# Altium footprint library extension.PcbLib: 33 footprints (part 1 of 3)
Each footprint in its own frame and in the unit in brackets; x right, y up, seen from the top. Pads: shape width x height; smd on the part's side, far side on the other; paste and mask are expansions set on the pad; w line width, h text height; cw(c..) or ccw(c..) is an arc to the next point about the centre after c.
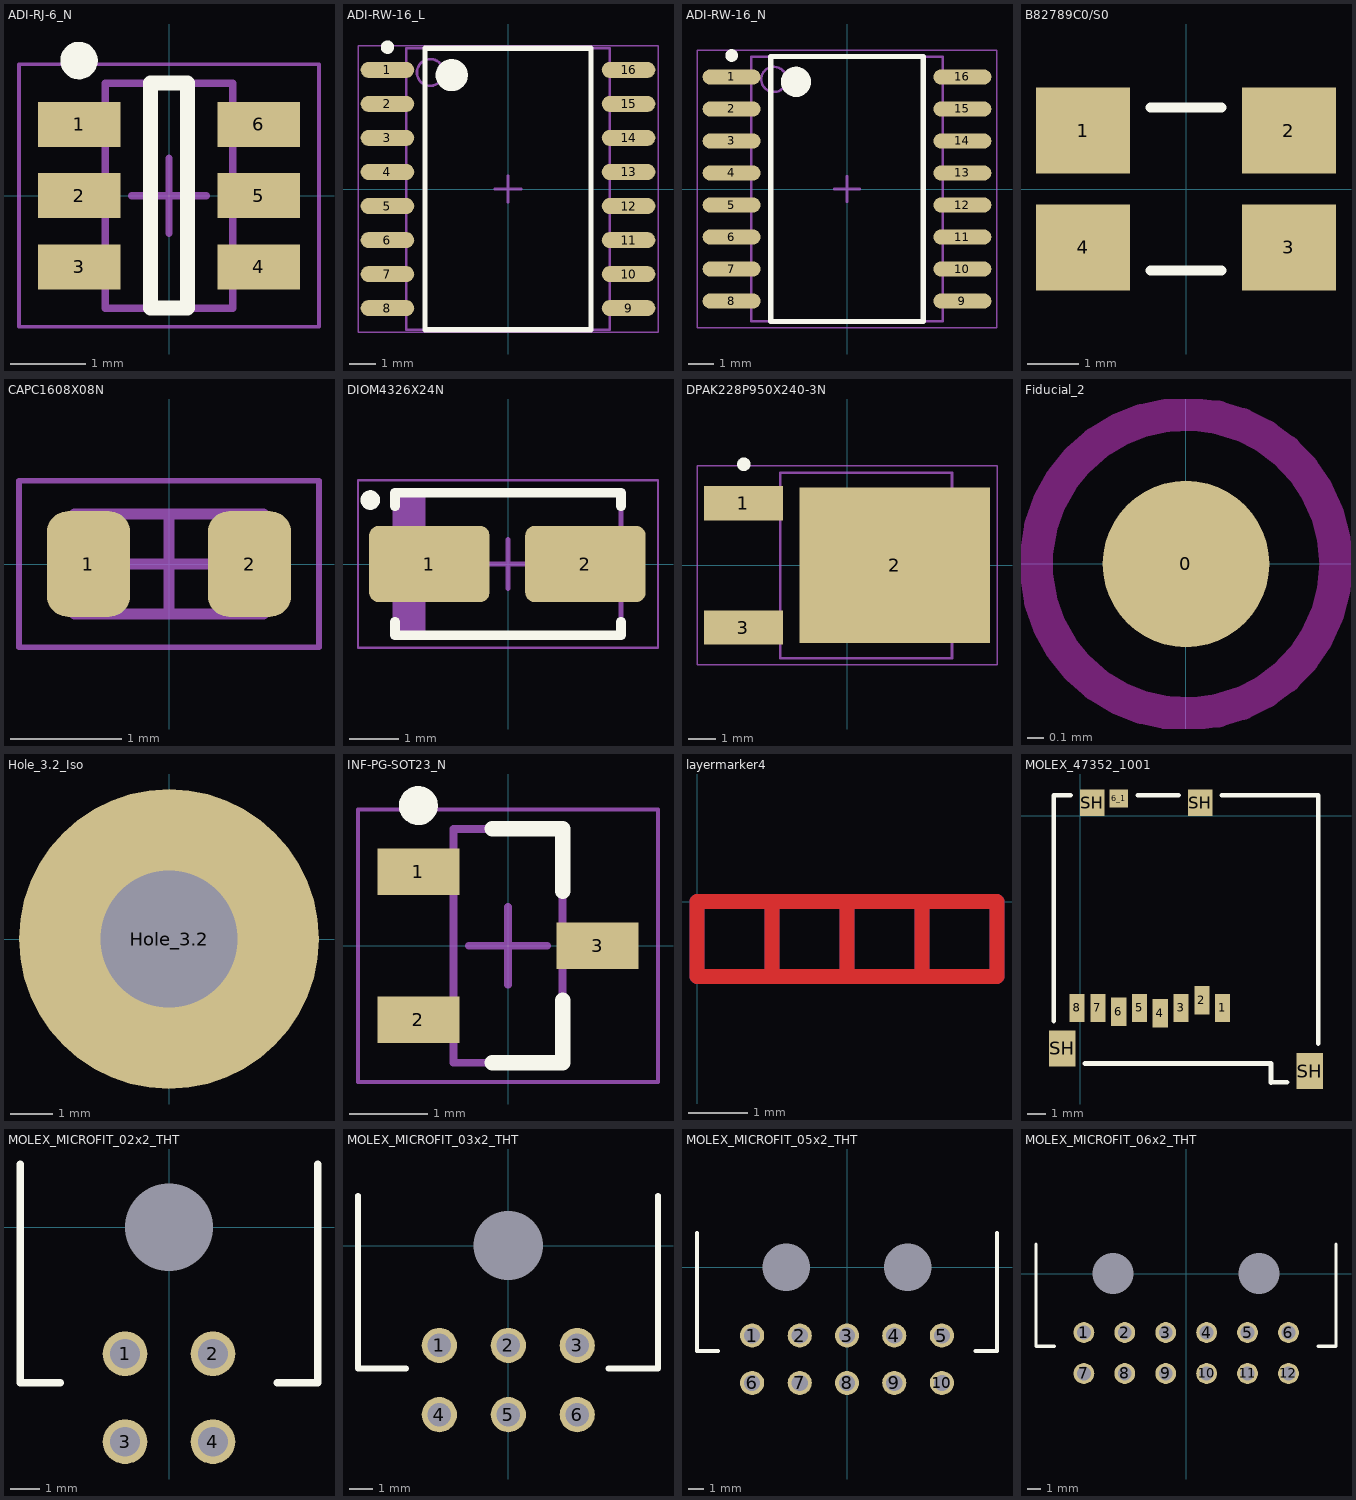
[diagram p0: the footprints below, top view; thin cyan lines are the x and y axes]

## ADI-RJ-6_N [mm] "SOT23, 6-Leads, Body 2.9x1.6mm, Pitch 0.95mm, IPC Medium Density"
height 1.45
pads (6):
  rect 1.1x0.6 smd: 1(-1.2,0.95) 2(-1.2,0) 3(-1.2,-0.95) 4(1.2,-0.95) 5(1.2,0) 6(1.2,0.95)
Top Overlay:
  circle w0.25: c-1.2,1.8 r0.125
  lines w0.2: -0.25,-1.5 -0.25,1.5 0.25,1.5 0.25,-1.5 -0.25,-1.5
Mechanical 13:
  lines w0.1: -0.85,-1.5 0.85,-1.5 0.85,1.5 -0.85,1.5 -0.85,-1.5
Mechanical 15:
  lines w0.05: -2,-1.75 2,-1.75 2,1.75 -2,1.75 -2,-1.75
  lines w0.1: -0.5,0 0.5,0 ; 0,-0.5 0,0.5
3D body: height 1.45, standoff 0.05, extent -0.85,-1.5 0.85,1.5

## ADI-RW-16_L [mm] "SOIC, 16-Leads, Body 10.3x7.5mm, Pitch 1.27mm, IPC High Density"
height 2.65
pads (16):
  oval 2x0.6 smd: 1(-4.5,4.445) 2(-4.5,3.175) 3(-4.5,1.905) 4(-4.5,0.635) 5(-4.5,-0.635) 6(-4.5,-1.905) 7(-4.5,-3.175) 8(-4.5,-4.445) 9(4.5,-4.445) 10(4.5,-3.175) 11(4.5,-1.905) 12(4.5,-0.635) 13(4.5,0.635) 14(4.5,1.905) 15(4.5,3.175) 16(4.5,4.445)
Top Overlay:
  circle w0.25: c-4.5,5.295 r0.125
  circle w0.6: c-2.1,4.25 r0.3
  lines w0.2: -3.1,-5.25 -3.1,5.25 3.1,5.25 3.1,-5.25 -3.1,-5.25
Mechanical 13:
  circle w0.1: c-2.9,4.35 r0.5
  lines w0.1: -3.8,-5.25 -3.8,5.25 3.8,5.25 3.8,-5.25 -3.8,-5.25
Mechanical 15:
  lines w0.05: -5.6,-5.35 -5.6,5.35 5.6,5.35 5.6,-5.35 -5.6,-5.35
  lines w0.1: -0.5,0 0.5,0 ; 0,-0.5 0,0.5
3D body: height 2.65, standoff 0.1, extent -3.8,-5.25 3.8,5.25

## ADI-RW-16_N [mm] "SOIC, 16-Leads, Body 10.3x7.5mm, Pitch 1.27mm, IPC Medium Density"
height 2.65
pads (16):
  oval 2.3x0.6 smd: 1(-4.575,4.445) 2(-4.575,3.175) 3(-4.575,1.905) 4(-4.575,0.635) 5(-4.575,-0.635) 6(-4.575,-1.905) 7(-4.575,-3.175) 8(-4.575,-4.445) 9(4.575,-4.445) 10(4.575,-3.175) 11(4.575,-1.905) 12(4.575,-0.635) 13(4.575,0.635) 14(4.575,1.905) 15(4.575,3.175) 16(4.575,4.445)
Top Overlay:
  circle w0.6: c-2.025,4.25 r0.3
  circle w0.25: c-4.575,5.295 r0.125
  lines w0.2: -3.025,-5.25 3.025,-5.25 3.025,5.25 -3.025,5.25 -3.025,-5.25
Mechanical 13:
  circle w0.1: c-2.9,4.35 r0.5
  lines w0.1: -3.8,-5.25 3.8,-5.25 3.8,5.25 -3.8,5.25 -3.8,-5.25
Mechanical 15:
  lines w0.05: -5.95,-5.5 5.95,-5.5 5.95,5.5 -5.95,5.5 -5.95,-5.5
  lines w0.1: -0.5,0 0.5,0 ; 0,-0.5 0,0.5
3D body: height 2.65, standoff 0.1, extent -3.8,-5.25 3.8,5.25

## B82789C0/S0 [mm] "SIMDAD 1812, common-mode chokes"
height 3
pads (4):
  rect 1.85x1.7 smd: 1(-2.025,1.15) 2(2.025,1.15) 3(2.025,-1.15) 4(-2.025,-1.15)
Top Overlay:
  lines w0.2: -0.7,-1.6 0.7,-1.6 ; -0.7,1.6 0.7,1.6
3D body: height 2.45, standoff 1.95, extent -2.6,-1.3 2.6,1.3
3D body: height 2.2, standoff 0, extent -2.275,0.9 -2.25,1.6
3D body: height 2.2, standoff 0, extent -2.275,-1.6 -2.25,-0.9
3D body: height 2.2, standoff 0, extent 2.25,0.9 2.275,1.6
3D body: height 2.2, standoff 0, extent 2.25,-1.6 2.275,-0.9
3D body: height 0.03, standoff 0, extent -2.25,0.9 -1.5,1.6
3D body: height 0.03, standoff 0, extent -2.25,-1.6 -1.5,-0.9
3D body: height 0.03, standoff 0, extent 1.5,0.9 2.25,1.6
3D body: height 0.03, standoff 0, extent 1.5,-1.6 2.25,-0.9
3D body: height 3, standoff 0.4, extent -2.25,-1.6 2.25,1.6

## CAPC1608X08N [mm] "Chip Capacitor, 2-Leads, Body 1,60x0,80mm, IPC Medium Density"
height 0.8
pads (2):
  rrect50% 0.75x0.95 smd: 1(-0.725,0) 2(0.725,0)
Mechanical 13:
  lines w0.1: -0.85,-0.45 -0.85,0.45 0.85,0.45 0.85,-0.45 -0.85,-0.45
Mechanical 15:
  lines w0.05: -1.35,-0.75 -1.35,0.75 1.35,0.75 1.35,-0.75 -1.35,-0.75
  lines w0.1: -0.45,0 0.45,0 ; 0,-0.45 0,0.45
3D body "CAPC1608X08N.step": height 0.8, standoff 0, extent -0.85,-0.45 0.85,0.45

## DIOM4326X24N [mm] "Molded Diode, 2-Leads, Body 4,30x2,60mm, IPC Medium Density, SMA, DO-214AC"
height 2.4
pads (2):
  rrect25% 2.45x1.55 smd: 1(-1.6,0) 2(1.575,0)
Top Overlay:
  circle w0.2: c-2.8,1.3 r0.1
  lines w0.2: -2.3,-1.175 -2.3,-1.45 2.3,-1.45 2.3,-1.175 ; -2.3,1.175 -2.3,1.45 2.3,1.45 2.3,1.175
Mechanical 13:
  rectangle: -2.3,-1.45 -1.681,1.45
  lines w0.1: -2.3,-1.45 -2.3,1.45 2.3,1.45 2.3,-1.45 -2.3,-1.45
Mechanical 15:
  lines w0.05: -3.05,-1.7 -3.05,1.7 3.05,1.7 3.05,-1.7 -3.05,-1.7
  lines w0.1: -0.5,0 0.5,0 ; 0,-0.5 0,0.5
3D body "DIOM4326X24N.step": height 2.4, standoff 0, extent -2.52,-1.45 2.52,1.45

## DPAK228P950X240-3N [mm] "D-PAK, 3-Pads, Body 6,25x6,76mm (max), IPC Medium Density"
height 2.4
pads (3):
  rect 2.9x1.25 smd: 1(-3.8,2.28) 3(-3.8,-2.28)
  rect 7x5.7 smd: 2(1.75,0)
Top Overlay:
  circle w0.25: c-3.785,3.708 r0.125
Mechanical 13:
  lines w0.1: -2.45,-3.4 -2.45,3.4 3.85,3.4 3.85,-3.4 -2.45,-3.4
Mechanical 15:
  lines w0.05: -5.5,-3.65 -5.5,3.65 5.5,3.65 5.5,-3.65 -5.5,-3.65
  lines w0.1: -0.5,0 0.5,0 ; 0,-0.5 0,0.5
3D body "DPAK228P950X240-3N.step": height 2.4, standoff 0, extent -4.25,-3.4 5.25,3.4

## Fiducial_2 [mm] "Fiducial Round 1mm"
pads (1):
  round 1 smd paste-0.5 mask+0.5: 0(0,0)
Top Layer keep-out:
  circle w0.2: c0,0 r0.9

## Hole_3.2_Iso [mm]
height 8.763
pads (1):
  round 7 hole 3.2: Hole_3.2(0,0)

## INF-PG-SOT23_N [mm] "SOT23, 3-Leads, Body 2.9x1.3mm, Pitch 0.95mm, IPC Medium Density"
height 1.1
pads (3):
  rect 1.05x0.6 smd: 1(-1.15,0.95) 2(-1.15,-0.95) 3(1.15,0)
Top Overlay:
  circle w0.25: c-1.15,1.8 r0.125
  lines w0.2: -0.2,-1.5 0.7,-1.5 0.7,-0.7 ; -0.2,1.5 0.7,1.5 0.7,0.7
Mechanical 13:
  lines w0.1: -0.7,-1.5 0.7,-1.5 0.7,1.5 -0.7,1.5 -0.7,-1.5
Mechanical 15:
  lines w0.05: -1.925,-1.75 1.925,-1.75 1.925,1.75 -1.925,1.75 -1.925,-1.75
  lines w0.1: -0.5,0 0.5,0 ; 0,-0.5 0,0.5
3D body: height 1.1, standoff 0.1, extent -0.7,-1.5 0.7,1.5

## layermarker4 [mm] "Marker for a 4 layerstack"
height 8.763
Top Layer:
  lines w0.254: 1.27,-1.27 1.27,0 ; 1.27,-1.27 0,-1.27 0,0 1.27,0 ; 1.27,-1.27 2.54,-1.27 ; 1.27,0 2.54,0 ; 2.54,-1.27 2.54,0 ; 2.54,-1.27 3.81,-1.27 ; 2.54,0 3.81,0 ; 3.81,-1.27 3.81,0 ; 3.81,-1.27 5.08,-1.27 5.08,0 3.81,0
  text "1" at 0.559,-0.864 h0.51
Mid-Layer 1:
  lines w0.254: 1.27,-1.27 2.54,-1.27 ; 1.27,-1.27 0,-1.27 0,0 1.27,0 ; 1.27,-1.27 1.27,0 ; 1.27,0 2.54,0 ; 2.54,-1.27 2.54,0 ; 2.54,-1.27 3.81,-1.27 ; 2.54,0 3.81,0 ; 3.81,-1.27 5.08,-1.27 5.08,0 3.81,0 ; 3.81,-1.27 3.81,0
  text "2" at 1.727,-0.864 h0.51
Mid-Layer 2:
  lines w0.254: 1.27,-1.27 0,-1.27 0,0 1.27,0 ; 1.27,-1.27 2.54,-1.27 ; 1.27,-1.27 1.27,0 ; 1.27,0 2.54,0 ; 2.54,-1.27 2.54,0 ; 2.54,-1.27 3.81,-1.27 ; 2.54,0 3.81,0 ; 3.81,-1.27 5.08,-1.27 5.08,0 3.81,0 ; 3.81,-1.27 3.81,0
  text "3" at 2.997,-0.864 h0.51
Bottom Layer:
  lines w0.254: 1.27,-1.27 0,-1.27 0,0 1.27,0 ; 1.27,-1.27 2.54,-1.27 ; 1.27,-1.27 1.27,0 ; 1.27,0 2.54,0 ; 2.54,-1.27 2.54,0 ; 2.54,-1.27 3.81,-1.27 ; 2.54,0 3.81,0 ; 3.81,-1.27 5.08,-1.27 5.08,0 3.81,0 ; 3.81,-1.27 3.81,0
  text "4" at 4.597,-0.864 h0.51

## MOLEX_47352_1001 [mm] "Molex SD Card Reader Push Push Type VDD Detect Switch"
height 1.88
pads (13):
  rect 0.8x1.5 smd: 1(7.54,-10.16) 2(6.44,-9.76) 3(5.34,-10.16) 4(4.24,-10.435) 5(3.14,-10.16) 6(2.04,-10.36) 7(0.94,-10.16) 8(-0.16,-10.16)
  rect 1x0.95 smd: 6_1(2.04,0.925)
  rect 1.4x1.9 smd: SH(-0.95,-12.3) SH(12.15,-13.5)
  rect 1.3x1.4 smd: SH(0.65,0.7) SH(6.35,0.7)
Top Overlay:
  lines w0.254: -1.397,-10.846 -1.397,1.067 ; -1.397,1.092 -0.508,1.092 ; 0.254,-13.1 10.077,-13.1 ; 3.048,1.092 5.207,1.092 ; 7.493,1.092 12.598,1.092 ; 10.1,-14.1 10.1,-13.1 ; 10.109,-14.097 10.947,-14.097 ; 12.598,-12.04 12.598,1.067
3D body "473521001.stp": height 1.9, standoff 0.02, extent -1.4,-14.204 12.7,0.996

## MOLEX_MICROFIT_02x2_THT [mil] "Micro-Fit 3.0 Right Angle Header, 3.00mm Pitch, Dual Row, 4 Circuits, with Snap-in Plastic Peg PCB Lock, Tin, Glow Wire Capable, Black, 43045-0400"
height 345
pads (5):
  round 60 hole 40: 1(-59.02,-170) 2(59.02,-170) 3(-59.02,-287.99) 4(59.02,-287.99)
  round 39.37 hole 117.99 unplated paste+0 mask+4: ""(0,0)
Top Overlay:
  lines w10: -200,85 -200,-209.02 -146.02,-209.02 ; 145.67,-209.02 200,-209.02 200,85
3D body "430450400.stp": height 345.35, standoff -125.12, extent -199.8,-300.95 199.8,180.94

## MOLEX_MICROFIT_03x2_THT [mil] "Micro-Fit 3.0 Right Angle Header, 3.00mm Pitch, Dual Row, 6 Circuits, with Snap-in Plastic Peg PCB Lock, Tin, Glow Wire Capable, Black, 43045-0600"
height 345
pads (7):
  round 60 hole 40: 1(-117.48,-170) 2(0,-170) 3(117.48,-170) 4(-117.48,-287.99) 5(0,-287.99) 6(117.48,-287.99)
  round 39.37 hole 117.99 unplated paste+0 mask+4: ""(0,0)
Top Overlay:
  lines w10: -256,85 -256,-209.02 -174,-209.02 ; 171,-209.02 255,-209.02 255,85
3D body "430450600.stp": height 345.35, standoff -125.12, extent -258.86,-300.95 258.86,180.94

## MOLEX_MICROFIT_05x2_THT [mil] "Micro-Fit 3.0 Right Angle Header, 3.00mm Pitch, Dual Row, 10 Circuits, with Snap-in Plastic Peg PCB Lock, Tin, Glow Wire Capable, Black, 43045-1000"
height 345
pads (12):
  round 60 hole 40: 1(-235.98,-170) 2(-117.48,-170) 3(0,-170) 4(117.48,-170) 5(235.98,-170) 6(-235.98,-287.99) 7(-117.48,-287.99) 8(0,-287.99) 9(117.48,-287.99) 10(235.98,-287.99)
  round 39.37 hole 117.99 unplated paste+0 mask+4: ""(-151.5,0) ""(151.5,0)
Top Overlay:
  lines w10: -373,85 -373,-209.02 -321,-209.02 ; 320,-209.02 373,-209.02 373,85
3D body "430451000.stp": height 345.35, standoff -125.12, extent -376.97,-300.95 376.97,180.94

## MOLEX_MICROFIT_06x2_THT [mil] "Micro-Fit 3.0 Right Angle Header, 3.00mm Pitch, Dual Row, 12 Circuits, with Snap-in Plastic Peg PCB Lock, Tin, Glow Wire Capable, Black, 43045-1200"
height 345
pads (14):
  round 60 hole 40: 1(-295,-170) 2(-177.01,-170) 3(-59.02,-170) 4(59.02,-170) 5(177.01,-170) 6(295,-170) 7(-295,-287.99) 8(-177.01,-287.99) 9(-59.02,-287.99) 10(59.02,-287.99) 11(177.01,-287.99) 12(295,-287.99)
  round 39.37 hole 117.99 unplated paste+0 mask+4: ""(-210.51,0) ""(210.51,0)
Top Overlay:
  lines w10: -433,85 -433,-209.02 -381,-209.02 ; 381,-209.02 432,-209.02 432,85
3D body "430451200.stp": height 345.35, standoff -125.12, extent -436.02,-300.95 436.02,180.94